# Altium schematic symbol library lf_esp_sch_lib.SchLib: 13 symbols
Pins are listed as number, name and electrical type; pins without a type are passive.

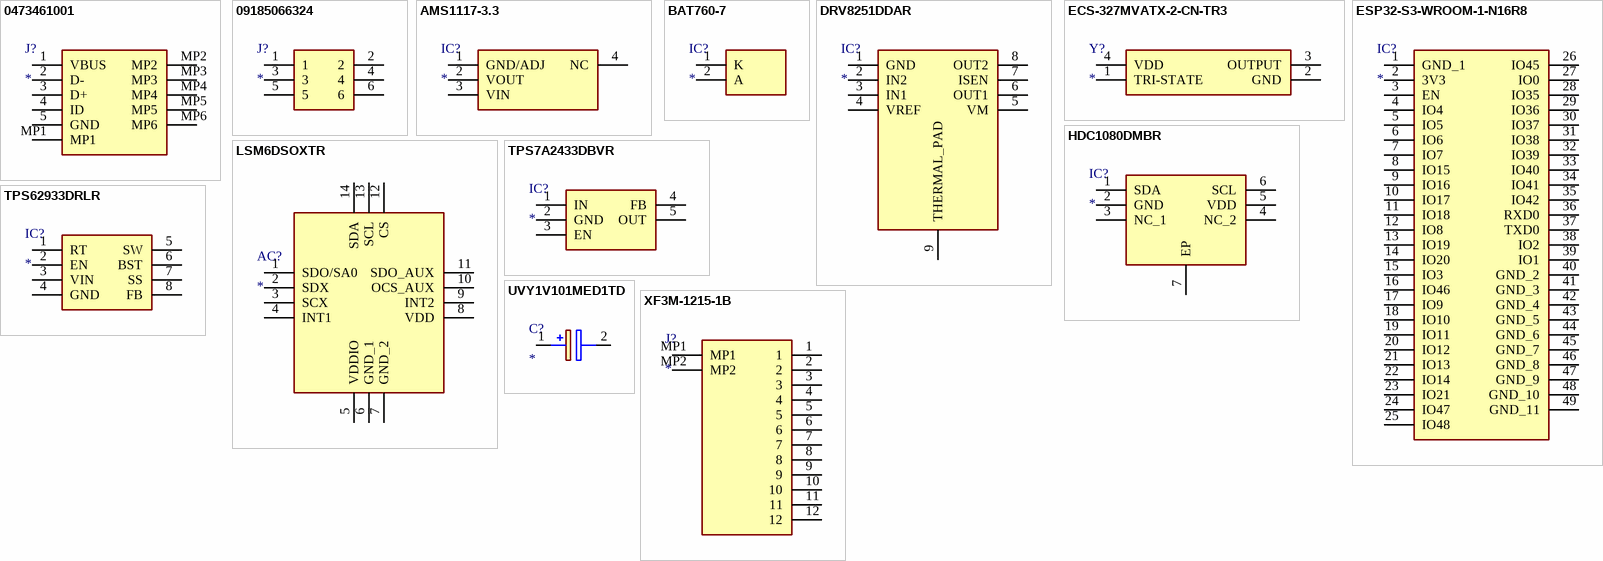
[diagram p0: symbols 0473461001 to XF3M-1215-1B]

## 0473461001
designator J?
Connector; Manufacturer_Name: Molex; Manufacturer_Part_Number: 0473461001; Datasheet Link: https://componentsearchengine.com/Datasheets/1/0473461001.pdf; Height: 2.45mm; Mouser Part Number: N/A; Mouser Price/Stock: https://www.mouser.co.uk/ProductDetail/Molex/0473461001?qs=2bnkQPT%252BPafTZgGVt%2FOGfA%3D%3D; Arrow Part Number: 0473461001; Arrow Price/Stock: https://www.arrow.com/en/products/0473461001/molex?region=nac
footprint 0473461001
pins: 1 VBUS, 2 D-, 3 D+, 4 ID, 5 GND, MP1, MP2, MP3, MP4, MP5, MP6

## 09185066324
designator J?
Connector; Manufacturer_Name: HARTING; Manufacturer_Part_Number: 09185066324; Datasheet Link: https://b2b.harting.com/files/download/PRD/PDF_DS/PDF_DS_09185066324_EN.pdf; Mouser Part Number: 617-09185066324; Mouser Price/Stock: https://www.mouser.co.uk/ProductDetail/HARTING/09185066324?qs=qa49y27LPCE%2F3ZplMsKEeQ%3D%3D; Arrow Part Number: 09185066324; Arrow Price/Stock: https://www.arrow.com/en/products/09185066324/harting?utm_currency=USD&region=europe
footprint 09185066324
pins: 1, 2, 3, 4, 5, 6

## AMS1117-3.3
designator IC?
Integrated Circuit; Manufacturer_Name: Advanced; Manufacturer_Part_Number: AMS1117-3.3; Datasheet Link: https://datasheet.datasheetarchive.com/originals/distributors/Datasheets-28/DSA-550594.pdf; Height: 1.8mm
footprint SOT229P700X180-4N
pins: 1 GND/ADJ, 2 VOUT, 3 VIN, 4 NC

## BAT760-7
designator IC?
Integrated Circuit; Manufacturer_Name: Lattice Semiconductor; Manufacturer_Part_Number: BAT760-7; Datasheet Link: https://www.diodes.com/assets/Datasheets/ds30498.pdf; Height: 1.2mm; Mouser Part Number: N/A; Mouser Price/Stock: https://www.mouser.com/Search/Refine.aspx?Keyword=N%2FA
footprint SOD2513X120N
pins: 1 K, 2 A

## DRV8251DDAR
designator IC?
Integrated Circuit; Manufacturer_Name: Texas Instruments; Manufacturer_Part_Number: DRV8251DDAR; Datasheet Link: https://www.arrow.com/en/products/drv8251ddar/texas-instruments?region=nac; Height: 1.7mm; Mouser Part Number: 595-DRV8251DDAR; Mouser Price/Stock: https://www.mouser.co.uk/ProductDetail/Texas-Instruments/DRV8251DDAR?qs=doiCPypUmgHTzZyfapGahQ%3D%3D; Arrow Part Number: DRV8251DDAR; Arrow Price/Stock: https://www.arrow.com/en/products/drv8251ddar/texas-instruments?region=nac
footprint SOIC127P600X170-9N
pins: 1 GND, 2 IN2, 3 IN1, 4 VREF, 5 VM, 6 OUT1, 7 ISEN, 8 OUT2, 9 THERMAL_PAD

## ECS-327MVATX-2-CN-TR3
designator Y?
Crystal or Oscillator; Manufacturer_Name: ECS; Manufacturer_Part_Number: ECS-327MVATX-2-CN-TR3; Datasheet Link: https://www.mouser.hk/datasheet/2/122/ECS_327MVATX-2580060.pdf; Height: 1mm; Mouser Part Number: 520-327MVATX-2-CNTR3; Mouser Price/Stock: https://www.mouser.co.uk/ProductDetail/ECS/ECS-327MVATX-2-CN-TR3?qs=7D1LtPJG0i3bLaOWFTjL5A%3D%3D; Arrow Part Number: ECS-327MVATX-2-CN-TR3; Arrow Price/Stock: https://www.arrow.com/en/products/ecs-327mvatx-2-cn-tr3/ecs-international?region=nac
footprint ECS327MVATX2CNTR3
pins: 1 TRI-STATE, 2 GND, 3 OUTPUT, 4 VDD

## ESP32-S3-WROOM-1-N16R8
designator IC?
Integrated Circuit; Manufacturer_Name: Espressif Systems; Manufacturer_Part_Number: ESP32-S3-WROOM-1-N16R8; Datasheet Link: https://www.espressif.com/sites/default/files/documentation/esp32-s3-wroom-1_wroom-1u_datasheet_en.pdf; Height: 3.25mm; Mouser Part Number: 356-ESP32S3WRM1N16R8; Mouser Price/Stock: https://www.mouser.co.uk/ProductDetail/Espressif-Systems/ESP32-S3-WROOM-1-N16R8?qs=Li%252BoUPsLEnvQc9gW6AMhZg%3D%3D
footprint ESP32S3WROOM1N16R8
pins: 1 GND_1, 2 3V3, 3 EN, 4 IO4, 5 IO5, 6 IO6, 7 IO7, 8 IO15, 9 IO16, 10 IO17, 11 IO18, 12 IO8, 13 IO19, 14 IO20, 15 IO3, 16 IO46, 17 IO9, 18 IO10, 19 IO11, 20 IO12, 21 IO13, 22 IO14, 23 IO21, 24 IO47, 25 IO48, 26 IO45, 27 IO0, 28 IO35, 29 IO36, 30 IO37, 31 IO38, 32 IO39, 33 IO40, 34 IO41, 35 IO42, 36 RXD0, 37 TXD0, 38 IO2, 39 IO1, 40 GND_2, 41 GND_3, 42 GND_4, 43 GND_5, 44 GND_6, 45 GND_7, 46 GND_8, 47 GND_9, 48 GND_10, 49 GND_11

## HDC1080DMBR
designator IC?
Integrated Circuit; Manufacturer_Name: Texas Instruments; Manufacturer_Part_Number: HDC1080DMBR; Datasheet Link: http://www.ti.com/lit/gpn/HDC1080; Height: 0.8mm; Mouser Part Number: 595-HDC1080DMBR; Mouser Price/Stock: https://www.mouser.co.uk/ProductDetail/Texas-Instruments/HDC1080DMBR?qs=8%2FmU9qzJpL9OuhPLRSO9Vg%3D%3D; Arrow Part Number: HDC1080DMBR; Arrow Price/Stock: https://www.arrow.com/en/products/hdc1080dmbr/texas-instruments?region=nac
footprint SON100P300X300X80-7N-D
pins: 1 SDA, 2 GND, 3 NC_1, 4 NC_2, 5 VDD, 6 SCL, 7 EP

## LSM6DSOXTR
designator AC?
Accelerometer; Manufacturer_Name: STMicroelectronics; Manufacturer_Part_Number: LSM6DSOXTR; Datasheet Link: https://www.st.com/resource/en/datasheet/lsm6dsox.pdf; Mouser Part Number: 511-LSM6DSOXTR; Mouser Price/Stock: https://www.mouser.co.uk/ProductDetail/STMicroelectronics/LSM6DSOXTR?qs=l7cgNqFNU1i9dcjzItLpVQ%3D%3D; Arrow Part Number: LSM6DSOXTR; Arrow Price/Stock: https://www.arrow.com/en/products/lsm6dsoxtr/stmicroelectronics?region=europe
footprint LGA-14_1
pins: 1 SDO/SA0, 2 SDX, 3 SCX, 4 INT1, 5 VDDIO, 6 GND_1, 7 GND_2, 8 VDD, 9 INT2, 10 OCS_AUX, 11 SDO_AUX, 12 CS, 13 SCL, 14 SDA

## TPS7A2433DBVR
designator IC?
Integrated Circuit; Manufacturer_Name: Texas Instruments; Manufacturer_Part_Number: TPS7A2433DBVR; Datasheet Link: https://www.ti.com/lit/gpn/TPS7A24; Height: 1.45mm; Mouser Part Number: 595-TPS7A2433DBVR; Mouser Price/Stock: https://www.mouser.co.uk/ProductDetail/Texas-Instruments/TPS7A2433DBVR?qs=wnTfsH77Xs7ROpwa%2Fm0jWA%3D%3D; Arrow Part Number: TPS7A2433DBVR; Arrow Price/Stock: null?region=nac
footprint SOT95P280X145-5N
pins: 1 IN, 2 GND, 3 EN, 4 FB, 5 OUT

## TPS62933DRLR
designator IC?
Integrated Circuit; Manufacturer_Name: Texas Instruments; Manufacturer_Part_Number: TPS62933DRLR; Datasheet Link: https://www.ti.com/lit/ds/symlink/tps62933.pdf?ts=1626073394234; Height: 0.6mm; Mouser Part Number: 595-TPS62933DRLR; Mouser Price/Stock: https://www.mouser.co.uk/ProductDetail/Texas-Instruments/TPS62933DRLR?qs=Rp5uXu7WBW9fv47wfQVntQ%3D%3D; Arrow Part Number: TPS62933DRLR; Arrow Price/Stock: https://www.arrow.com/en/products/tps62933drlr/texas-instruments?utm_currency=USD&region=nac
footprint SOTFL50P160X60-8N
pins: 1 RT, 2 EN, 3 VIN, 4 GND, 5 SW, 6 BST, 7 SS, 8 FB

## UVY1V101MED1TD
designator C?
Capacitor Polarised; Manufacturer_Name: Nichicon; Manufacturer_Part_Number: UVY1V101MED1TD; Datasheet Link: http://nichicon-us.com/english/products/pdfs/e-uvy.pdf; Height: 12.5mm; Arrow Part Number: UVY1V101MED1TD; Arrow Price/Stock: https://www.arrow.com/en/products/uvy1v101med1td/nichicon
footprint CAPPRD250W50D655H1250
pins: 1 +, 2 -

## XF3M-1215-1B
designator J?
Connector; Manufacturer_Name: Omron Electronics; Manufacturer_Part_Number: XF3M-1215-1B; Datasheet Link: https://datasheet.lcsc.com/szlcsc/Omron-Electronics-XF3M-1215-1B_C231431.pdf; Height: 2mm; Mouser Part Number: 653-XF3M-1215-1B; Mouser Price/Stock: https://www.mouser.co.uk/ProductDetail/Omron-Electronics/XF3M-1215-1B?qs=1He0yLMpldAQYeSJcjbchQ%3D%3D; Arrow Part Number: XF3M-1215-1B; Arrow Price/Stock: https://www.arrow.com/en/products/xf3m-1215-1b/omron
footprint XF3M12151B
pins: 1, 2, 3, 4, 5, 6, 7, 8, 9, 10, 11, 12, MP1, MP2